# EAGLE library part ARM-SWD-10 (library dtb)
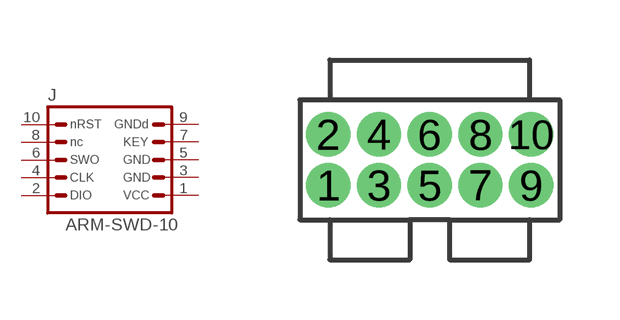
[diagram p11: symbol with the pads of FTSH-10-DK; footprint FTSH-10-DK]

Designator prefix J

## ARM-SWD-10  [FTSH-10-DK]
1  1  pas
2  2  pas
3  3  pas
4  4  pas
5  5  pas
6  6  pas
7  7  pas
8  8  pas
9  9  pas
10  10  pas

## Footprint FTSH-10-DK (pad centres in mm)
drill 0.6 pad 1.016: 1 -2.54,-0.635; 2 -2.54,0.635; 3 -1.27,-0.635; 4 -1.27,0.635; 5 0,-0.635; 6 0,0.635; 7 1.27,-0.635; 8 1.27,0.635; 9 2.54,-0.635; 10 2.54,0.635